# Altium schematic symbol library TPN4R806PL.SchLib: 1 symbol
Pins are listed as number, name and electrical type; pins without a type are passive.

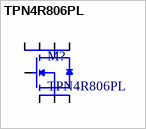
[diagram p0: symbol TPN4R806PL]

## TPN4R806PL
designator M?
No Description Available; SourceLibrary: Toshiba_2019-12-10; Built_By: EMA_UL_Team; Vendor: Toshiba; Copyright: Copyright (C) 2018 Accelerated Designs. All rights reserved; Manufacturer_Part_Number: TPN4R806PL; RefDes: RefDes; Type: DEV; Value: Value
footprint TPN4R806PL
pins: 1, 2, 3, 4, 5, 6, 7, 8